# EAGLE library part SN74LVC2G157DCUR (library SN74LVC2G157DCUR)
SINGLE 2-LINE TO 1-LINE DATA SELECTOR/MULTIPLEXER
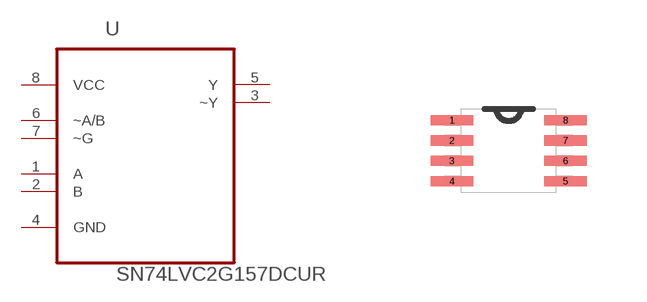
[diagram p0: symbol with the pads of SOP50P310X90-8N; footprint SOP50P310X90-8N]

Designator prefix U

## SN74LVC2G157DCUR (Availability: Good; Description: Single 2-Line to 1-Line Data Selector/Multiplexer 8-VSSOP -40 to 85; MF: Texas Instruments; MP: SN74LVC2G157DCUR; Package: VFSOP-8 Texas Instruments; Price: 0.29 USD)  [SOP50P310X90-8N]
1  A  in
2  B  in
3  ~Y  out
4  GND  pas
5  Y  out
6  ~A/B  in
7  ~G  in
8  VCC  pwr

## Footprint SOP50P310X90-8N (pad centres in mm)
smd 1.067 x 0.254: 1 -1.422,0.762; 2 -1.422,0.254; 3 -1.422,-0.254; 4 -1.422,-0.762; 5 1.422,-0.762; 6 1.422,-0.254; 7 1.422,0.254; 8 1.422,0.762